# EAGLE library part TC554001 (library memories)
Static RAM 512K x 8 bits Toshiba
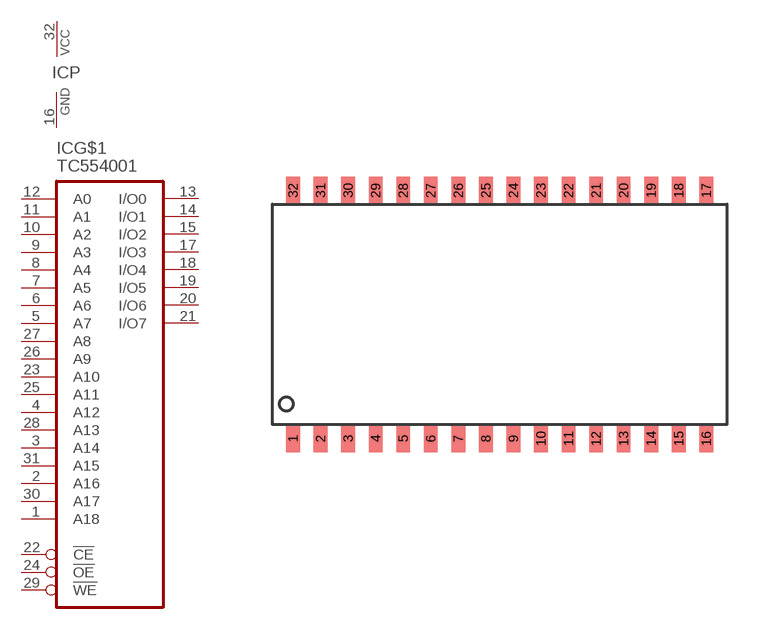
[diagram p4: symbol with the pads of TSOPII32; footprint TSOPII32]

Designator prefix IC; gates G$1=RAM512KX8 P=PWRN

## TC554001T  [TSOPII32]
1  G$1:A18  in
2  G$1:A16  in
3  G$1:A14  in
4  G$1:A12  in
5  G$1:A7  in
6  G$1:A6  in
7  G$1:A5  in
8  G$1:A4  in
9  G$1:A3  in
10  G$1:A2  in
11  G$1:A1  in
12  G$1:A0  in
13  G$1:I/O0  hiz
14  G$1:I/O1  hiz
15  G$1:I/O2  hiz
16  P:GND  pwr
17  G$1:I/O3  hiz
18  G$1:I/O4  hiz
19  G$1:I/O5  hiz
20  G$1:I/O6  hiz
21  G$1:I/O7  hiz
22  G$1:!CE  in
23  G$1:A10  in
24  G$1:!OE  in
25  G$1:A11  in
26  G$1:A9  in
27  G$1:A8  in
28  G$1:A13  in
29  G$1:!WE  in
30  G$1:A17  in
31  G$1:A15  in
32  P:VCC  pwr

## Footprint TSOPII32 (pad centres in mm)
TSOP II32 pins
smd 0.635 x 1.27: 1 -9.525,-5.715; 2 -8.255,-5.715; 3 -6.985,-5.715; 4 -5.715,-5.715; 5 -4.445,-5.715; 6 -3.175,-5.715; 7 -1.905,-5.715; 8 -0.635,-5.715; 9 0.635,-5.715; 10 1.905,-5.715; 11 3.175,-5.715; 12 4.445,-5.715; 13 5.715,-5.715; 14 6.985,-5.715; 15 8.255,-5.715; 16 9.525,-5.715; 17 9.525,5.715; 18 8.255,5.715; 19 6.985,5.715; 20 5.715,5.715; 21 4.445,5.715; 22 3.175,5.715; 23 1.905,5.715; 24 0.635,5.715; 25 -0.635,5.715; 26 -1.905,5.715; 27 -3.175,5.715; 28 -4.445,5.715; 29 -5.715,5.715; 30 -6.985,5.715; 31 -8.255,5.715; 32 -9.525,5.715